# Altium footprint library RT_SUPER__MK76__A.PcbLib: 27 footprints (part 1 of 2)
Each footprint in its own frame and in the unit in brackets; x right, y up, seen from the top. Pads: shape width x height; smd on the part's side, far side on the other; paste and mask are expansions set on the pad; w line width, h text height; cw(c..) or ccw(c..) is an arc to the next point about the centre after c.
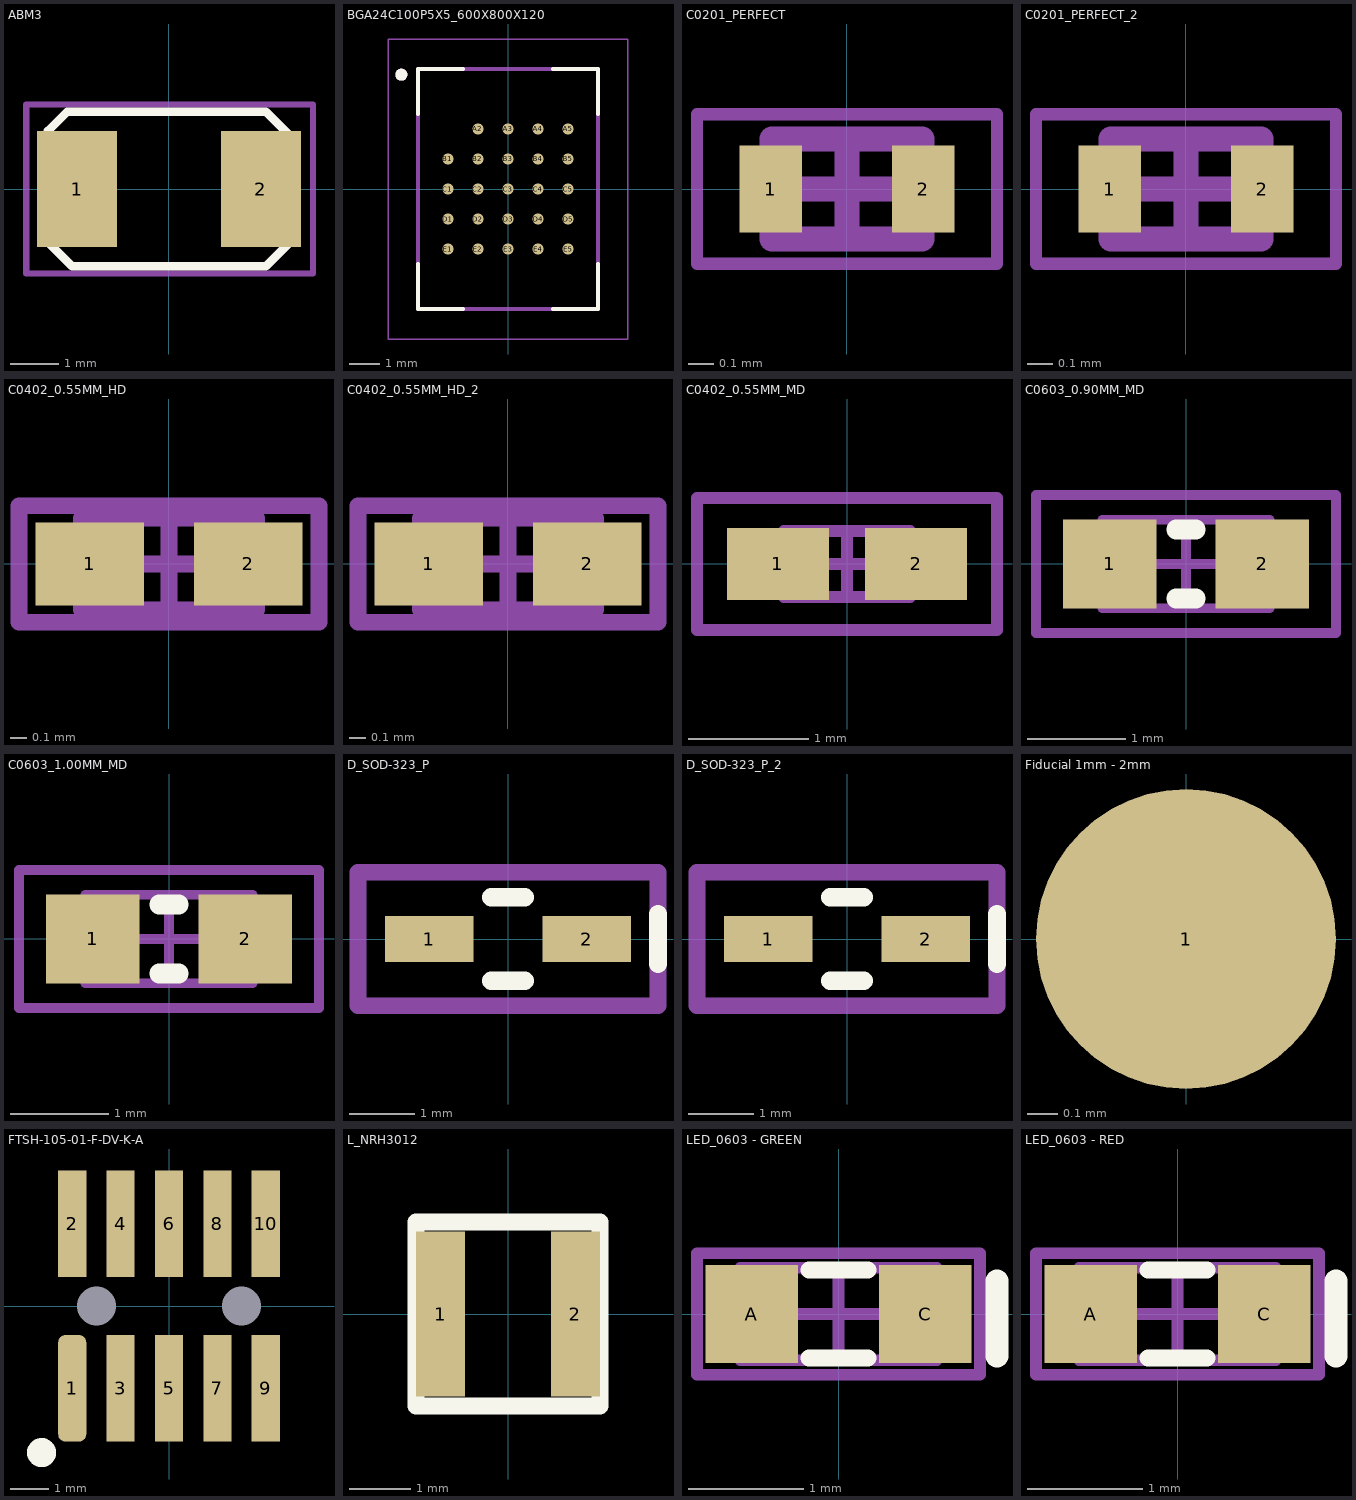
[diagram p0: the footprints below, top view; thin cyan lines are the x and y axes]

## ABM3 [mm] "Abracon Crystal 5x3.2mm"
height 1.3
pads (2):
  rect 1.651x2.4 smd: 1(-1.9,0) 2(1.9,0)
Top Overlay:
  lines w0.178: -2.5,-1.1 -2,-1.6 2,-1.6 2.5,-1.1 2.5,1.1 2,1.6 -2,1.6 -2.1,1.6 -2.5,1.2 -2.5,0.3 -2.5,-1.1
Mechanical 13:
  lines w0.127: -2.95,-1.75 -2.95,1.75 2.975,1.75 2.975,-1.75 -2.95,-1.75
  text ".Designator" at -2.8,-1.6 h0.76
3D body: height 1.3, standoff 0.6, extent -2.1,-1.3 2.1,1.3
3D body: height 0.6, standoff 0, extent -2.5,-1.6 2.5,1.6

## BGA24C100P5X5_600X800X120 [mm]
height 2.77
pads (24):
  round 0.37 smd: A2(-1,2) A3(0,2) A4(1,2) A5(2,2) B1(-2,1) B2(-1,1) B3(0,1) B4(1,1) B5(2,1) C1(-2,0) C2(-1,0) C3(0,0) C4(1,0) C5(2,0) D1(-2,-1) D2(-1,-1) D3(0,-1) D4(1,-1) D5(2,-1) E1(-2,-2) E2(-1,-2) E3(0,-2) E4(1,-2) E5(2,-2)
Top Overlay:
  circle w0.2: c-3.556,3.81 r0.1
  lines w0.127: -3,-2.5 -3,-4 -1.5,-4 ; -3,2.5 -3,4 -1.5,4 ; 1.5,-4 3,-4 3,-2.5 ; 1.5,4 3,4 3,2.5
Mechanical 13:
  circle w0.2: c-3.556,3.81 r0.1
  lines w0.127: -3,-4 3,-4 3,4 -3,4 -3,-4
Mechanical 15:
  lines w0.05: -4,-5 4,-5 4,5 -4,5 -4,-5
3D body "step_temp.STEP": height 1.2, standoff 0, extent -3,-4 3,4

## C0201_PERFECT [mm] "Chip Capacitor, 2-Leads, Body 0.60x0.35mm, IPC High https://www.worthingtonassembly.com/blog/2018/1/29/the-perfect-0201-footprint"
height 0.3
pads (2):
  rect 0.25x0.35 smd mask+0.05: 1(-0.305,0) 2(0.305,0)
Mechanical 13:
  lines w0.1: -0.3,-0.2 -0.3,0.2 0.3,0.2 0.3,-0.2 -0.3,-0.2
Mechanical 15:
  lines w0.05: -0.6,-0.3 -0.6,0.3 0.6,0.3 0.6,-0.3 -0.6,-0.3
  lines w0.1: -0.2,0 0.2,0 ; 0,-0.2 0,0.2
3D body "CAPC0604X03L.step": height 0.3, standoff 0, extent -0.3,-0.2 0.3,0.2

## C0201_PERFECT_2 [mm]
pads (2):
  rect 0.25x0.35 smd mask+0.05: 1(-0.305,0) 2(0.305,0)
Mechanical 13:
  lines w0.1: -0.3,-0.2 0.3,-0.2 0.3,0.2 -0.3,0.2 -0.3,-0.2
Mechanical 15:
  lines w0.05: -0.6,-0.3 0.6,-0.3 0.6,0.3 -0.6,0.3 -0.6,-0.3
  lines w0.1: -0.2,0 0.2,0 ; 0,-0.2 0,0.2
3D body "CAPC0604X03L.step": height 0.3, standoff 0, extent -0.3,-0.2 0.3,0.2

## C0402_0.55MM_HD [mm] "Capacitor 0402 0.55mm Height- High Density"
height 0.5
pads (2):
  rect 0.65x0.5 smd: 1(-0.475,0) 2(0.475,0)
Mechanical 13:
  lines w0.1: -0.525,-0.275 0.525,-0.275 0.525,0.275 -0.525,0.275 -0.525,-0.275
Mechanical 15:
  lines w0.1: -0.275,0 0.275,0 ; 0,-0.275 0,0.275 ; -0.9,-0.35 0.9,-0.35 0.9,0.35 -0.9,0.35 -0.9,-0.35
3D body "0402_0.55mm.STEP": height 0.55, standoff 0, extent -0.525,-0.25 0.475,0.25

## C0402_0.55MM_HD_2 [mm]
pads (2):
  rect 0.65x0.5 smd: 1(-0.475,0) 2(0.475,0)
Mechanical 13:
  lines w0.1: -0.525,-0.275 0.525,-0.275 0.525,0.275 -0.525,0.275 -0.525,-0.275
Mechanical 15:
  lines w0.1: -0.275,0 0.275,0 ; 0,-0.275 0,0.275 ; -0.9,-0.35 0.9,-0.35 0.9,0.35 -0.9,0.35 -0.9,-0.35
3D body "0402_0.55mm.STEP": height 0.55, standoff 0, extent -0.525,-0.25 0.475,0.25

## C0402_0.55MM_MD [mm] "Capacitor - 0402 - Medium Density"
height 0.55
pads (2):
  rect 0.85x0.6 smd: 1(-0.575,0) 2(0.575,0)
Mechanical 13:
  lines w0.1: -0.525,-0.275 -0.525,0.275 0.525,0.275 0.525,-0.275 -0.525,-0.275
Mechanical 15:
  lines w0.1: -0.275,0 0.275,0 ; 0,-0.275 0,0.275 ; -1.25,-0.55 -1.25,0.55 1.25,0.55 1.25,-0.55 -1.25,-0.55
3D body "0402_0.55mm.STEP": height 0.55, standoff 0, extent -0.5,-0.25 0.5,0.25

## C0603_0.90MM_MD [mm] "Capacitor 0603 - Medium Density"
height 0.9
pads (2):
  rect 0.95x0.9 smd: 1(-0.775,0) 2(0.775,0)
Top Overlay:
  lines w0.2: -0.1,-0.35 0.1,-0.35 ; -0.1,0.35 0.1,0.35
Mechanical 13:
  lines w0.1: -0.85,-0.45 -0.85,0.45 0.85,0.45 0.85,-0.45 -0.85,-0.45
Mechanical 15:
  lines w0.1: -0.45,0 0.45,0 ; 0,-0.45 0,0.45 ; -1.525,-0.7 -1.525,0.7 1.525,0.7 1.525,-0.7 -1.525,-0.7
3D body "0603_0.90mm.STEP": height 0.9, standoff 0, extent -0.8,-0.4 0.8,0.4

## C0603_1.00MM_MD [mm] "Capacitor 0603 - Medium Density"
height 0.95
pads (2):
  rect 0.95x0.9 smd: 1(-0.775,0) 2(0.775,0)
Top Overlay:
  lines w0.2: -0.1,-0.35 0.1,-0.35 ; -0.1,0.35 0.1,0.35
Mechanical 13:
  lines w0.1: -0.85,-0.45 0.85,-0.45 0.85,0.45 -0.85,0.45 -0.85,-0.45
Mechanical 15:
  lines w0.1: -0.45,0 0.45,0 ; 0,-0.45 0,0.45 ; -1.525,-0.7 1.525,-0.7 1.525,0.7 -1.525,0.7 -1.525,-0.7
3D body "0603_0.90mm.STEP": height 1, standoff 0.1, extent -0.8,-0.4 0.8,0.4

## D_SOD-323_P [mm] "SOD-123 Diode - Polarized"
height 1.35
pads (2):
  rect 1.35x0.7 smd: 1(-1.2,0) 2(1.2,0)
Top Overlay:
  lines w0.279: -0.254,-0.635 0.254,-0.635 ; -0.254,0.635 0.254,0.635 ; 2.286,-0.381 2.286,0.381
Mechanical 15:
  lines w0.254: -2.286,-1.016 -2.286,1.016 2.286,1.016 2.286,-1.016 -0.084,-1.016 -2.286,-1.016
3D body "SOD-323.step": height 1.1, standoff 0, extent -1.3,-0.675 1.3,0.675

## D_SOD-323_P_2 [mm]
pads (2):
  rect 1.35x0.7 smd: 1(-1.2,0) 2(1.2,0)
Top Overlay:
  lines w0.279: -0.254,-0.635 0.254,-0.635 ; -0.254,0.635 0.254,0.635 ; 2.286,-0.381 2.286,0.381
Mechanical 15:
  lines w0.254: -2.286,-1.016 -0.084,-1.016 2.286,-1.016 2.286,1.016 -2.286,1.016 -2.286,-1.016
3D body "SOD-323.step": height 1.1, standoff 0, extent -1.3,-0.675 1.3,0.675

## Fiducial 1mm - 2mm [mm] "1mm Pad 2mm Opening"
height 2.77
pads (1):
  round 1 smd paste-10 mask+0.5: 1(0,0)

## FTSH-105-01-F-DV-K-A [mil] "Samtec FTSH-105-01-F-DV-K-A SMT Connector"
height 235.04
pads (12):
  rrect50% 29x110 smd: 1(-100,-85)
  rect 29x110 smd: 2(-100,85) 3(-50,-85) 4(-50,85) 5(0,-85) 6(0,85) 7(50,-85) 8(50,85) 9(100,-85) 10(100,85)
  round 5 hole 40 unplated mask+20: A(-75,0) A(75,0)
Top Overlay:
  circle w20: c-131.67,-151.42 r5
3D body "FTSH-105-01-X-DV-K-A.step": height 241, standoff -34, extent -125,-115.01 125,114.99

## L_NRH3012 [mm] "Inductor"
height 1.2
pads (2):
  rect 0.8x2.7 smd: 1(-1.1,0) 2(1.1,0)
Top Overlay:
  lines w0.279: -1.5,-1.5 -1.5,1.5 1.5,1.5 1.5,-1.5 -1.5,-1.5
3D body: height 1.2, standoff 0.05, extent -1.5,-1.5 1.5,1.5

## LED_0603 - GREEN [mm] "LED_0603 - GREEN"
height 0.8
pads (2):
  rect 0.8x0.85 smd: A(-0.75,0) C(0.75,0)
Top Overlay:
  lines w0.15: -0.254,-0.381 0.254,-0.381 ; -0.254,0.381 0.254,0.381
  lines w0.2: 1.372,-0.362 1.372,0.287
Mechanical 13:
  lines w0.1: -0.85,-0.4 -0.85,0.4 0.85,0.4 0.85,-0.4 -0.85,-0.4
Mechanical 15:
  lines w0.1: -0.4,0 0.4,0 ; 0,-0.4 0,0.4 ; -1.225,-0.525 -1.225,0.525 1.225,0.525 1.225,-0.525 -1.225,-0.525
3D body: height 0.26, standoff 0.25, extent 0.476,0.226 0.499,0.374
3D body: height 0.26, standoff 0.25, extent 0.476,-0.374 0.499,-0.226
3D body: height 0.75, standoff 0.25, extent -0.475,-0.399 0.474,0.399
3D body: height 0.25, standoff 0, extent -0.499,-0.399 0.499,0.399
3D body: height 0.25, standoff 0, extent 0.5,-0.399 0.8,0.4
3D body: height 0.25, standoff 0, extent -0.8,-0.399 -0.5,0.4

## LED_0603 - RED [mm] "LED_0603"
height 0.8
pads (2):
  rect 0.8x0.85 smd: A(-0.75,0) C(0.75,0)
Top Overlay:
  lines w0.15: -0.254,-0.381 0.254,-0.381 ; -0.254,0.381 0.254,0.381
  lines w0.2: 1.372,-0.362 1.372,0.287
Mechanical 13:
  lines w0.1: -0.85,-0.4 -0.85,0.4 0.85,0.4 0.85,-0.4 -0.85,-0.4
Mechanical 15:
  lines w0.1: -0.4,0 0.4,0 ; 0,-0.4 0,0.4 ; -1.225,-0.525 -1.225,0.525 1.225,0.525 1.225,-0.525 -1.225,-0.525
3D body: height 0.26, standoff 0.25, extent 0.476,0.226 0.499,0.374
3D body: height 0.26, standoff 0.25, extent 0.476,-0.374 0.499,-0.226
3D body: height 0.75, standoff 0.25, extent -0.475,-0.399 0.474,0.399
3D body: height 0.25, standoff 0, extent -0.499,-0.399 0.499,0.399
3D body: height 0.25, standoff 0, extent 0.5,-0.399 0.8,0.4
3D body: height 0.25, standoff 0, extent -0.8,-0.399 -0.5,0.4